# EAGLE library part LOLIND32 (library lolind32)
Wemos Lolin D32 Lolin D32 is a development board based on ESP32. On this schematic, this board is designed with battery port. Pins VP and VN are Not Connected pins.
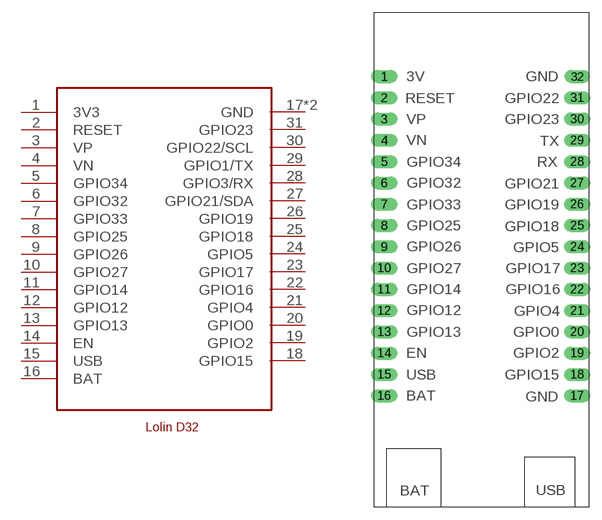
[diagram p0: symbol with the pads of LOLIND32; footprint LOLIND32]

Designator prefix -

## LOLIND32  [LOLIND32]
1  3V3  pwr
2  RESET  in
3  VP  nc
4  VN  nc
5  GPIO34  in
6  GPIO32
7  GPIO33
8  GPIO25
9  GPIO26
10  GPIO27
11  GPIO14
12  GPIO12
13  GPIO13
14  EN  in
15  USB  pwr
16  BAT  pwr
17  GND  pwr
18  GPIO15
19  GPIO2
20  GPIO0
21  GPIO4
22  GPIO16
23  GPIO17
24  GPIO5
25  GPIO18
26  GPIO19
27  GPIO21/SDA
28  GPIO3/RX
29  GPIO1/TX
30  GPIO22/SCL
31  GPIO23
32  GND  pwr

## Footprint LOLIND32 (pad centres in mm)
Wemos Lolin D32 ESP32 development board with battery port. VP and VN are Not Connected pins
drill 1 pad 1.575 long: 1 -11.43,21.59; 2 -11.43,19.05; 3 -11.43,16.51; 4 -11.43,13.97; 5 -11.43,11.43; 6 -11.43,8.89; 7 -11.43,6.35; 8 -11.43,3.81; 9 -11.43,1.27; 10 -11.43,-1.27; 11 -11.43,-3.81; 12 -11.43,-6.35; 13 -11.43,-8.89; 14 -11.43,-11.43; 15 -11.43,-13.97; 16 -11.43,-16.51; 17 11.58,-16.51; 18 11.58,-13.97; 19 11.58,-11.43; 20 11.58,-8.89; 21 11.58,-6.35; 22 11.58,-3.81; 23 11.58,-1.27; 24 11.58,1.27; 25 11.58,3.81; 26 11.58,6.35; 27 11.58,8.89; 28 11.58,11.43; 29 11.58,13.97; 30 11.58,16.51; 31 11.58,19.05
drill 1 pad 1.524 long: 32 11.58,21.59